# EAGLE library part ORG1510-MK4 (library ORG1510-MK4 GPS module)
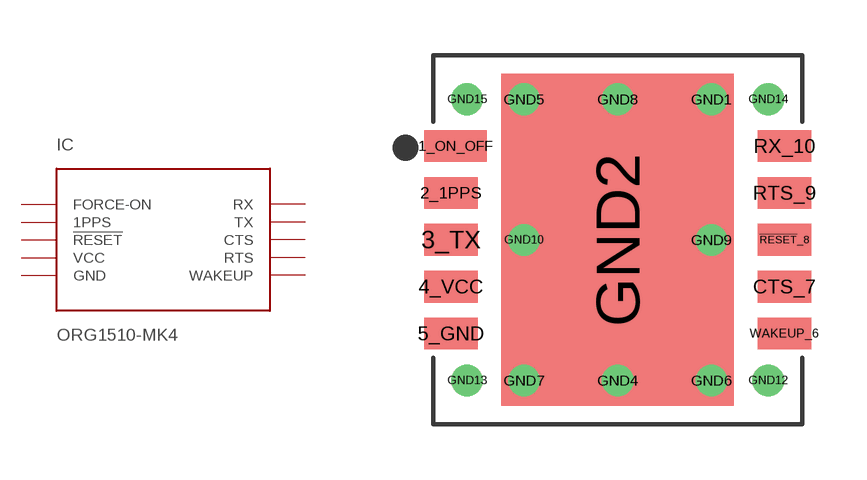
[diagram p0: symbol with the pads of SMD; footprint SMD]

Designator prefix IC

## ORG1510-MK4  [SMD]
1_ON_OFF  FORCE-ON  in
2_1PPS  1PPS  out
3_TX  TX  out
4_VCC  VCC  pwr
5_GND  GND  pwr
!RESET!_8  !RESET!  in
CTS_7  RTS
GND1  GND  pwr
GND2  GND  pwr
GND4  GND  pwr
GND5  GND  pwr
GND6  GND  pwr
GND7  GND  pwr
GND8  GND  pwr
GND9  GND  pwr
GND10  GND  pwr
GND12  GND  pwr
GND13  GND  pwr
GND14  GND  pwr
GND15  GND  pwr
RTS_9  CTS
RX_10  RX  in
WAKEUP_6  WAKEUP  out

## Footprint SMD (pad centres in mm)
smd 1.7 x 0.86: 1_ON_OFF -4.393,2.54
smd 1.45 x 0.86: 2_1PPS -4.518,1.27; 3_TX -4.518,0; 4_VCC -4.518,-1.27; 5_GND -4.518,-2.54; !RESET!_8 4.518,0; CTS_7 4.518,-1.27; RTS_9 4.518,1.27; RX_10 4.518,2.54; WAKEUP_6 4.518,-2.54
drill 0.35: GND1 2.54,3.81; GND4 0,-3.81; GND5 -2.54,3.81; GND6 2.54,-3.81; GND7 -2.54,-3.81; GND8 0,3.81; GND9 2.54,0; GND10 -2.54,0; GND12 4.08,-3.81; GND13 -4.08,-3.81; GND14 4.08,3.81; GND15 -4.08,3.81
smd 6.3 x 9: GND2 0,0